# Altium schematic symbol library TS-1089S-025261_TS-1089S-02526.SCHLIB: 1 symbol
Pins are listed as number, name and electrical type; pins without a type are passive.

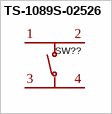
[diagram p0: symbol TS-1089S-02526]

## TS-1089S-02526
designator SW??  (value not drawn)
Manufacturer: XUNPU(讯普); Add into BOM: yes; Circuit: SPST; Actuator Style: Oval button; Switch Length: 4.2mm; Switch Width: 3.25mm; Switch Height: 2.5mm; Contact Current: 50mA; Voltage Rating (DC): 12V; Symbol: TS-1089S-02526; Device: TS-1089S-02526; LCSC Part Name: 4.2*3.25*2.5mm 立贴 轻触开关; Supplier Part: C455282; Manufacturer Part: TS-1089S-02526; Supplier Footprint: SMD,3.3x4.2mm; JLCPCB Part Class: Extended Part; Datasheet: https://atta.szlcsc.com/upload/public/pdf/source/20191118/C455282_2E86A26A9CC4FEF4662951C4D45ED672.pdf; Supplier: LCSC; Convert to PCB: yes; Mounting Style: Brick nogging; With Lamp: -; Mechanical Life: -
footprint SW-SMD_4P-L4.2-W3.3-P2.15-LS5.1
pins: 1, 2, 3, 4